# Altium footprint library XDCR_BMP280.PcbLib: 1 footprints
Each footprint in its own frame and in the unit in brackets; x right, y up, seen from the top. Pads: shape width x height; smd on the part's side, far side on the other; paste and mask are expansions set on the pad; w line width, h text height; cw(c..) or ccw(c..) is an arc to the next point about the centre after c.
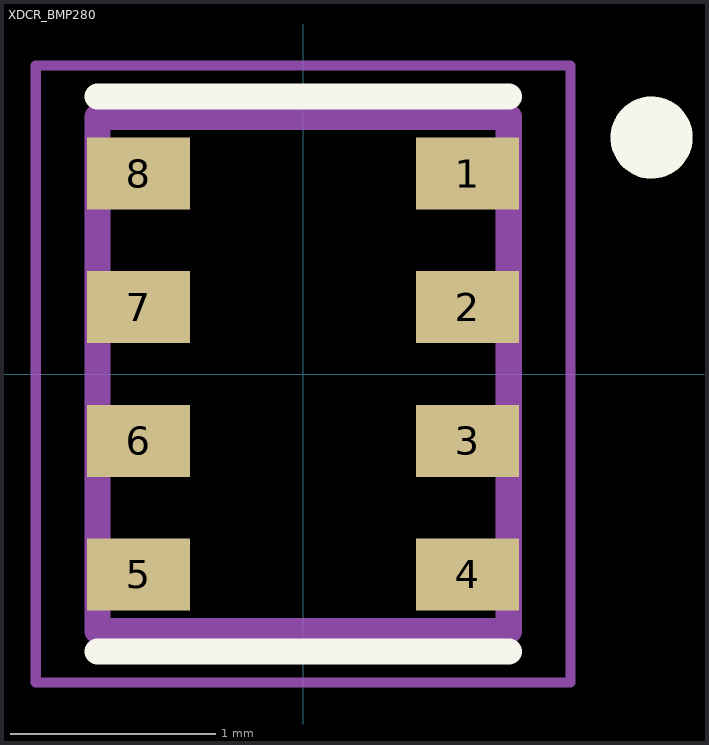
[diagram p0: the footprint, top view; thin cyan lines are the x and y axes]

## XDCR_BMP280 [mm]
pads (8):
  rect 0.5x0.35 smd: 1(0.8,0.975) 2(0.8,0.325) 3(0.8,-0.325) 4(0.8,-0.975) 5(-0.8,-0.975) 6(-0.8,-0.325) 7(-0.8,0.325) 8(-0.8,0.975)
Top Overlay:
  circle w0.2: c1.695,1.15 r0.1
  lines w0.127: -1,-1.35 1,-1.35 ; -1,1.35 1,1.35
Mechanical 13:
  lines w0.127: -1,-1.25 1,-1.25 1,1.25 -1,1.25 -1,-1.25
Mechanical 15:
  lines w0.05: -1.3,-1.5 -1.3,1.5 1.3,1.5 1.3,-1.5 -1.3,-1.5